# Altium schematic symbol library Реле.SchLib: 11 symbols
Pins are listed as number, name and electrical type; pins without a type are passive.

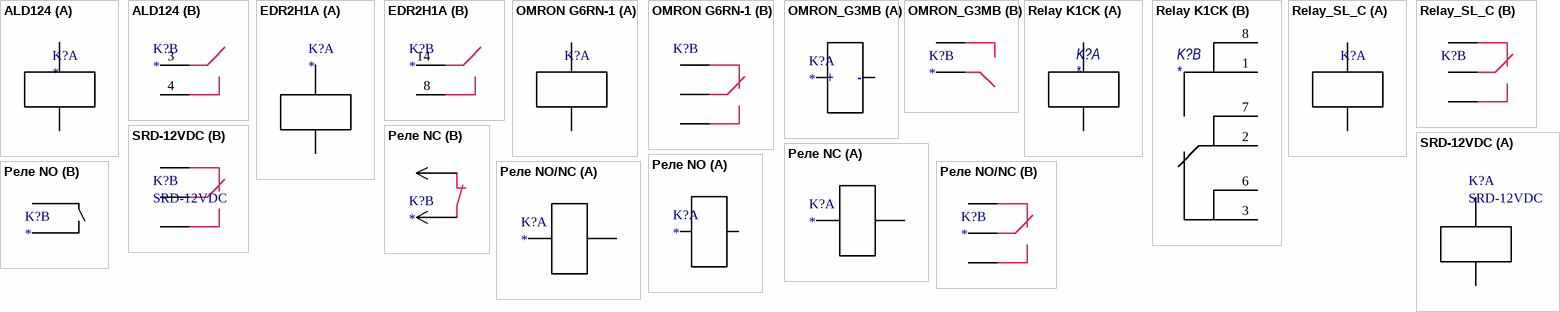
[diagram p0: symbols ALD124 to Реле NO/NC]

## ALD124
designator K?
part A pins: 1, 2
part B pins: 3, 4

## EDR2H1A
designator K?
part A pins: 2, 6
part B pins: 8, 14

## OMRON G6RN-1
designator K?, comment ***  (value not drawn)
Rem: *; Package: *; Tolerance: *; Power/Voltage: *; TKE: *; ManufacturerPartNumber: *; Manufacturer: *; Quantity: *; Примечание: *; Value: *
footprint OMRON_G6RN_1
part A pins: 1, 5
part B pins: 2, 3, 4

## OMRON_G3MB
designator K?
part A pins: 3 +, 4 -
part B pins: 1, 2

## Relay K1CK
designator K?
part A pins: 4, 5
part B pins: 1, 2, 3, 6, 7, 8

## Relay_SL_C
designator K?
Relay_SL_C
part A pins: 1, 2
part B pins: 3, 4, 5

## SRD-12VDC
designator K?
footprint SRD_xVDC
part A pins: 1, 2
part B pins: 3, 4, 5

## Реле NC
designator K?
part A pins: 1, 2
part B pins: 3, 4

## Реле NO
designator K?
part A pins: 1, 2
part B pins: 3, 4

## Реле NO/NC
designator K?
part A pins: 1, 2
part B pins: 3, 4, 5

## РЫБА_1
designator D?, comment ***  (value not drawn)
Rem: *; Package: *; Value: *; Tolerance: *; Power/Voltage: *; TKE: *; ManufacturerPartNumber: *; Manufacturer: *; Quantity: *; Примечание: *; Price: *